# Altium footprint library SOT - 3 Flat Leads.PcbLib: 5 footprints
Each footprint in its own frame and in the unit in brackets; x right, y up, seen from the top. Pads: shape width x height; smd on the part's side, far side on the other; paste and mask are expansions set on the pad; w line width, h text height; cw(c..) or ccw(c..) is an arc to the next point about the centre after c.
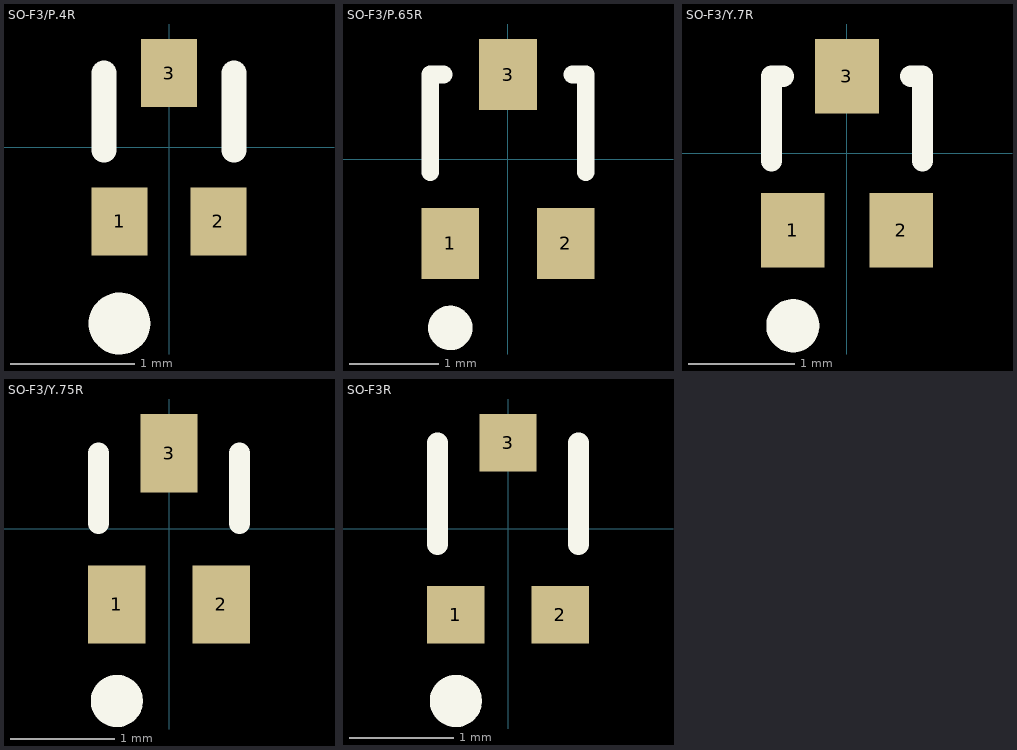
[diagram p0: the footprints below, top view; thin cyan lines are the x and y axes]

## SO-F3/P.4R [mm] "SMT; 3 Flat Leads; Body 1.2 x 1.2 x 0.5 mm, inc leads (LxWxH typ)"
height 0.55
pads (3):
  rect 0.45x0.55 smd: 1(-0.4,-0.6) 2(0.4,-0.6) 3(0,0.6)
Top Overlay:
  circle w0.25: c-0.4,-1.425 r0.125
  lines w0.2: -0.526,-0.025 -0.526,0.6 ; 0.526,-0.025 0.526,0.6

## SO-F3/P.65R [mm] "SMT; 3 Flat Leads; Body 2.0 x 2.1 x 0.9 mm, inc leads (LxWxH typ)"
height 1
pads (3):
  rect 0.65x0.8 smd: 1(-0.65,-0.95) 2(0.65,-0.95) 3(0,0.95)
Top Overlay:
  circle w0.25: c-0.65,-1.9 r0.125
  lines w0.2: -0.875,-0.15 -0.875,0.95 -0.725,0.95 ; 0.725,0.95 0.875,0.95 0.875,-0.15

## SO-F3/Y.7R [mm] "SMT; 3 Flat Leads; Body 1.6 x 1.6 x 0.6 mm, inc leads (LxWxH typ)"
height 0.65
pads (3):
  rect 0.6x0.7 smd: 1(-0.51,-0.725) 2(0.51,-0.725) 3(0,0.725)
Top Overlay:
  circle w0.25: c-0.51,-1.625 r0.125
  lines w0.2: -0.71,-0.075 -0.71,0.725 -0.6,0.725 ; 0.6,0.725 0.71,0.725 0.71,-0.075

## SO-F3/Y.75R [mm] "SC-89; 3 Flat Leads; Body 1.6 x 1.6 x 0.7 mm, inc leads (LxWxH typ)"
height 0.8
pads (3):
  rect 0.55x0.75 smd: 1(-0.5,-0.725) 2(0.5,-0.725) 3(0,0.725)
Top Overlay:
  circle w0.25: c-0.5,-1.65 r0.125
  lines w0.2: -0.676,0.05 -0.676,0.725 ; 0.675,0.05 0.675,0.725

## SO-F3R [mm] "SMT; 3 Flat Leads; Body 1.6 x 1.6 x 0.6 mm, inc leads (LxWxH typ)"
height 0.6
pads (3):
  rect 0.55x0.55 smd: 1(-0.5,-0.825) 2(0.5,-0.825) 3(0,0.825)
Top Overlay:
  circle w0.25: c-0.5,-1.65 r0.125
  lines w0.2: -0.675,-0.15 -0.675,0.825 ; 0.675,-0.15 0.675,0.825